# Altium footprint library DRV8434SRGER.PcbLib: 3 footprints
Each footprint in its own frame and in the unit in brackets; x right, y up, seen from the top. Pads: shape width x height; smd on the part's side, far side on the other; paste and mask are expansions set on the pad; w line width, h text height; cw(c..) or ccw(c..) is an arc to the next point about the centre after c.
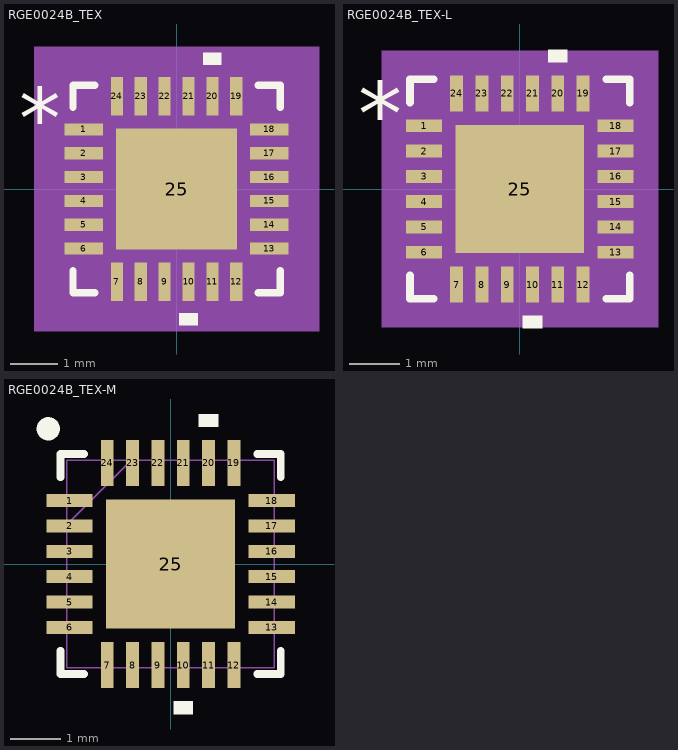
[diagram p0: the footprints below, top view; thin cyan lines are the x and y axes]

## RGE0024B_TEX [mil]
pads (25):
  rect 32x10 smd paste+0 mask+0: 1(-76.5,49.21) 2(-76.5,29.53) 3(-76.5,9.84) 4(-76.5,-9.84) 5(-76.5,-29.53) 6(-76.5,-49.21) 13(76.5,-49.21) 14(76.5,-29.53) 15(76.5,-9.84) 16(76.5,9.84) 17(76.5,29.53) 18(76.5,49.21)
  rect 10x32 smd paste+0 mask+0: 7(-49.21,-76.5) 8(-29.53,-76.5) 9(-9.84,-76.5) 10(9.84,-76.5) 11(29.53,-76.5) 12(49.21,-76.5) 19(49.21,76.5) 20(29.53,76.5) 21(9.84,76.5) 22(-9.84,76.5) 23(-29.53,76.5) 24(-49.21,76.5)
  rect 100x100 smd paste-49.5 mask+0: 25(0,0)
Top Overlay:
  region: 17.34,-102.5 2.34,-102.5 2.34,-112.5 17.34,-112.5
  region: 37.03,102.5 22.03,102.5 22.03,112.5 37.03,112.5
  lines w6: -85.5,-67.31 -85.5,-85.5 -67.31,-85.5 ; -85.5,67.31 -85.5,85.5 -67.31,85.5 ; 67.31,-85.5 85.5,-85.5 85.5,-67.31 ; 67.31,85.5 85.5,85.5 85.5,67.31
  text "*" at -130,34.06 h50
Top Paste:
  region: -3.94,46.06 -46.06,46.06 -46.06,3.94 -3.94,3.94
  region: -3.94,-3.94 -46.06,-3.94 -46.06,-46.06 -3.94,-46.06
  region: 46.06,46.06 3.94,46.06 3.94,3.94 46.06,3.94
  region: 46.06,-3.94 3.94,-3.94 3.94,-46.06 46.06,-46.06
Mechanical 5:
  region: 117.5,-117.5 -117.5,-117.5 -117.5,117.5 117.5,117.5
Mechanical 13:
  lines w1: -80.5,30.5 -30.5,80.5 ; -80.5,-80.5 80.5,-80.5 80.5,80.5 -80.5,80.5 -80.5,-80.5 ; -80.5,-55.21 -80.5,-43.21 -80.5,-55.21 ; -80.5,-35.53 -80.5,-23.53 -80.5,-35.53 ; -80.5,-15.84 -80.5,-3.84 -80.5,-15.84 ; -80.5,3.84 -80.5,15.84 -80.5,3.84 ; -80.5,23.53 -80.5,35.53 -80.5,23.53 ; -80.5,43.21 -80.5,55.21 -80.5,43.21 ; -55.21,-80.5 -43.21,-80.5 -55.21,-80.5 ; -55.21,80.5 -43.21,80.5 -55.21,80.5 ; -35.53,-80.5 -23.53,-80.5 -35.53,-80.5 ; -35.53,80.5 -23.53,80.5 -35.53,80.5 ; -15.84,-80.5 -3.84,-80.5 -15.84,-80.5 ; -15.84,80.5 -3.84,80.5 -15.84,80.5 ; 3.84,-80.5 15.84,-80.5 3.84,-80.5 ; 3.84,80.5 15.84,80.5 3.84,80.5 ; 23.53,-80.5 35.53,-80.5 23.53,-80.5 ; 23.53,80.5 35.53,80.5 23.53,80.5 ; 43.21,-80.5 55.21,-80.5 43.21,-80.5 ; 43.21,80.5 55.21,80.5 43.21,80.5 ; 80.5,-55.21 80.5,-43.21 80.5,-55.21 ; 80.5,-35.53 80.5,-23.53 80.5,-35.53 ; 80.5,-15.84 80.5,-3.84 80.5,-15.84 ; 80.5,3.84 80.5,15.84 80.5,3.84 ; 80.5,23.53 80.5,35.53 80.5,23.53 ; 80.5,43.21 80.5,55.21 80.5,43.21
  text "*" at -73,34.06 h50
Mechanical 15:
  region: -64.21,-90.5 -90.5,-90.5 -90.5,-64.21 -102.5,-64.21 -102.5,64.21 -90.5,64.21 -90.5,90.5 -64.21,90.5 -64.21,102.5 64.21,102.5 64.21,90.5 90.5,90.5 90.5,64.21 102.5,64.21 102.5,-64.21 90.5,-64.21 90.5,-90.5 64.21,-90.5 64.21,-102.5 -64.21,-102.5
  lines w6: -102.5,-64.21 -90.5,-64.21 -90.5,-90.5 -64.21,-90.5 -64.21,-102.5 64.21,-102.5 64.21,-90.5 90.5,-90.5 90.5,-64.21 102.5,-64.21 102.5,64.21 90.5,64.21 90.5,90.5 64.21,90.5 64.21,102.5 -64.21,102.5 -64.21,90.5 -90.5,90.5 -90.5,64.21 -102.5,64.21 -102.5,-64.21
3D body "RGE0024B_TEX.step": height 39.09, standoff 0, extent -80.51,-80.51 80.51,80.51

## RGE0024B_TEX-L [mil]
pads (25):
  rect 28x10 smd paste+0 mask+0: 1(-74.5,49.21) 2(-74.5,29.53) 3(-74.5,9.84) 4(-74.5,-9.84) 5(-74.5,-29.53) 6(-74.5,-49.21) 13(74.5,-49.21) 14(74.5,-29.53) 15(74.5,-9.84) 16(74.5,9.84) 17(74.5,29.53) 18(74.5,49.21)
  rect 10x28 smd paste+0 mask+0: 7(-49.21,-74.5) 8(-29.53,-74.5) 9(-9.84,-74.5) 10(9.84,-74.5) 11(29.53,-74.5) 12(49.21,-74.5) 19(49.21,74.5) 20(29.53,74.5) 21(9.84,74.5) 22(-9.84,74.5) 23(-29.53,74.5) 24(-49.21,74.5)
  rect 100x100 smd paste-49.5 mask+0: 25(0,0)
Top Overlay:
  region: 37.03,98.5 22.03,98.5 22.03,108.5 37.03,108.5
  region: 17.34,-98.5 2.34,-98.5 2.34,-108.5 17.34,-108.5
  lines w6: -85.5,-67.31 -85.5,-85.5 -67.31,-85.5 ; -85.5,67.31 -85.5,85.5 -67.31,85.5 ; 67.31,-85.5 85.5,-85.5 85.5,-67.31 ; 67.31,85.5 85.5,85.5 85.5,67.31
  text "*" at -126,34.06 h50
Top Paste:
  region: 46.06,-3.94 3.94,-3.94 3.94,-46.06 46.06,-46.06
  region: 46.06,46.06 3.94,46.06 3.94,3.94 46.06,3.94
  region: -3.94,-3.94 -46.06,-3.94 -46.06,-46.06 -3.94,-46.06
  region: -3.94,46.06 -46.06,46.06 -46.06,3.94 -3.94,3.94
Mechanical 5:
  region: 107.5,-107.5 -107.5,-107.5 -107.5,107.5 107.5,107.5
Mechanical 13:
  lines w1: -80.5,30.5 -30.5,80.5 ; -80.5,-80.5 -80.5,80.5 80.5,80.5 80.5,-80.5 -80.5,-80.5 ; -80.5,-55.21 -80.5,-43.21 -80.5,-55.21 ; -80.5,-35.53 -80.5,-23.53 -80.5,-35.53 ; -80.5,-15.84 -80.5,-3.84 -80.5,-15.84 ; -80.5,3.84 -80.5,15.84 -80.5,3.84 ; -80.5,23.53 -80.5,35.53 -80.5,23.53 ; -80.5,43.21 -80.5,55.21 -80.5,43.21 ; -55.21,-80.5 -43.21,-80.5 -55.21,-80.5 ; -55.21,80.5 -43.21,80.5 -55.21,80.5 ; -35.53,-80.5 -23.53,-80.5 -35.53,-80.5 ; -35.53,80.5 -23.53,80.5 -35.53,80.5 ; -15.84,-80.5 -3.84,-80.5 -15.84,-80.5 ; -15.84,80.5 -3.84,80.5 -15.84,80.5 ; 3.84,-80.5 15.84,-80.5 3.84,-80.5 ; 3.84,80.5 15.84,80.5 3.84,80.5 ; 23.53,-80.5 35.53,-80.5 23.53,-80.5 ; 23.53,80.5 35.53,80.5 23.53,80.5 ; 43.21,-80.5 55.21,-80.5 43.21,-80.5 ; 43.21,80.5 55.21,80.5 43.21,80.5 ; 80.5,-55.21 80.5,-43.21 80.5,-55.21 ; 80.5,-35.53 80.5,-23.53 80.5,-35.53 ; 80.5,-15.84 80.5,-3.84 80.5,-15.84 ; 80.5,3.84 80.5,15.84 80.5,3.84 ; 80.5,23.53 80.5,35.53 80.5,23.53 ; 80.5,43.21 80.5,55.21 80.5,43.21
  text "*" at -73,34.06 h50
Mechanical 15:
  region: -58.21,-84.5 -84.5,-84.5 -84.5,-58.21 -92.5,-58.21 -92.5,58.21 -84.5,58.21 -84.5,84.5 -58.21,84.5 -58.21,92.5 58.21,92.5 58.21,84.5 84.5,84.5 84.5,58.21 92.5,58.21 92.5,-58.21 84.5,-58.21 84.5,-84.5 58.21,-84.5 58.21,-92.5 -58.21,-92.5
  lines w6: -92.5,-58.21 -92.5,58.21 -84.5,58.21 -84.5,84.5 -58.21,84.5 -58.21,92.5 58.21,92.5 58.21,84.5 84.5,84.5 84.5,58.21 92.5,58.21 92.5,-58.21 84.5,-58.21 84.5,-84.5 58.21,-84.5 58.21,-92.5 -58.21,-92.5 -58.21,-84.5 -84.5,-84.5 -84.5,-58.21 -92.5,-58.21
3D body "RGE0024B_TEX.step": height 39.09, standoff 0, extent -80.51,-80.51 80.51,80.51

## RGE0024B_TEX-M [mil]
pads (25):
  rect 36x10 smd paste+0 mask+0: 1(-78.5,49.21) 2(-78.5,29.53) 3(-78.5,9.84) 4(-78.5,-9.84) 5(-78.5,-29.53) 6(-78.5,-49.21) 13(78.5,-49.21) 14(78.5,-29.53) 15(78.5,-9.84) 16(78.5,9.84) 17(78.5,29.53) 18(78.5,49.21)
  rect 10x36 smd paste+0 mask+0: 7(-49.21,-78.5) 8(-29.53,-78.5) 9(-9.84,-78.5) 10(9.84,-78.5) 11(29.53,-78.5) 12(49.21,-78.5) 19(49.21,78.5) 20(29.53,78.5) 21(9.84,78.5) 22(-9.84,78.5) 23(-29.53,78.5) 24(-49.21,78.5)
  rect 100x100 smd paste-49.5 mask+0: 25(0,0)
Top Overlay:
  circle w10: c-95,105 r4.01
  region: 37.03,106.5 22.03,106.5 22.03,116.5 37.03,116.5
  region: 17.34,-106.5 2.34,-106.5 2.34,-116.5 17.34,-116.5
  lines w6: -85.5,-67.31 -85.5,-85.5 -67.31,-85.5 ; -85.5,67.31 -85.5,85.5 -67.31,85.5 ; 67.31,-85.5 85.5,-85.5 85.5,-67.31 ; 67.31,85.5 85.5,85.5 85.5,67.31
Top Paste:
  region: 46.06,-3.94 3.94,-3.94 3.94,-46.06 46.06,-46.06
  region: 46.06,46.06 3.94,46.06 3.94,3.94 46.06,3.94
  region: -3.94,-3.94 -46.06,-3.94 -46.06,-46.06 -3.94,-46.06
  region: -3.94,46.06 -46.06,46.06 -46.06,3.94 -3.94,3.94
Mechanical 13:
  lines w1: -80.5,30.5 -30.5,80.5 ; -80.5,-80.5 -80.5,80.5 80.5,80.5 80.5,-80.5 -80.5,-80.5 ; -80.5,-55.21 -80.5,-43.21 -80.5,-55.21 ; -80.5,-35.53 -80.5,-23.53 -80.5,-35.53 ; -80.5,-15.84 -80.5,-3.84 -80.5,-15.84 ; -80.5,3.84 -80.5,15.84 -80.5,3.84 ; -80.5,23.53 -80.5,35.53 -80.5,23.53 ; -80.5,43.21 -80.5,55.21 -80.5,43.21 ; -55.21,-80.5 -43.21,-80.5 -55.21,-80.5 ; -55.21,80.5 -43.21,80.5 -55.21,80.5 ; -35.53,-80.5 -23.53,-80.5 -35.53,-80.5 ; -35.53,80.5 -23.53,80.5 -35.53,80.5 ; -15.84,-80.5 -3.84,-80.5 -15.84,-80.5 ; -15.84,80.5 -3.84,80.5 -15.84,80.5 ; 3.84,-80.5 15.84,-80.5 3.84,-80.5 ; 3.84,80.5 15.84,80.5 3.84,80.5 ; 23.53,-80.5 35.53,-80.5 23.53,-80.5 ; 23.53,80.5 35.53,80.5 23.53,80.5 ; 43.21,-80.5 55.21,-80.5 43.21,-80.5 ; 43.21,80.5 55.21,80.5 43.21,80.5 ; 80.5,-55.21 80.5,-43.21 80.5,-55.21 ; 80.5,-35.53 80.5,-23.53 80.5,-35.53 ; 80.5,-15.84 80.5,-3.84 80.5,-15.84 ; 80.5,3.84 80.5,15.84 80.5,3.84 ; 80.5,23.53 80.5,35.53 80.5,23.53 ; 80.5,43.21 80.5,55.21 80.5,43.21
3D body "RGE0024B_TEX.step": height 39.09, standoff 0, extent -80.51,-80.51 80.51,80.51